# EAGLE library part 90814-0812 (library Molex_By_element14_Batch_1)
CONN HEADER 12POS 1.27MM SMD TIN
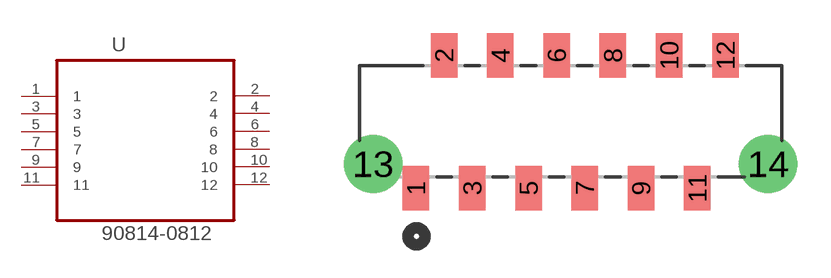
[diagram p61: symbol with the pads of MOLEX_90814-0812; footprint MOLEX_90814-0812]

Designator prefix U

## 90814-0812 (MPN: 90814-0812; OC_FARNELL: 1518213; OC_NEWARK: 74M7857; PACKAGE: CONN-12POS; SUPPLIER: Molex)  [MOLEX_90814-0812]
1  1  pas
2  2  pas
3  3  pas
4  4  pas
5  5  pas
6  6  pas
7  7  pas
8  8  pas
9  9  pas
10  10  pas
11  11  pas
12  12  pas

## Footprint MOLEX_90814-0812 (pad centres in mm)
smd 1.194 x 2.007: 1 0,0; 2 1.27,5.994; 3 2.54,0; 4 3.81,5.994; 5 5.08,0; 6 6.35,5.994; 7 7.62,0; 8 8.89,5.994; 9 10.16,0; 10 11.43,5.994; 11 12.7,0; 12 13.97,5.994
drill 1.753: 13 -1.93,1.092; 14 15.9,1.092